# Altium footprint library 1747785-1 8 pin connector.PcbLib: 1 footprints
Each footprint in its own frame and in the unit in brackets; x right, y up, seen from the top. Pads: shape width x height; smd on the part's side, far side on the other; paste and mask are expansions set on the pad; w line width, h text height; cw(c..) or ccw(c..) is an arc to the next point about the centre after c.
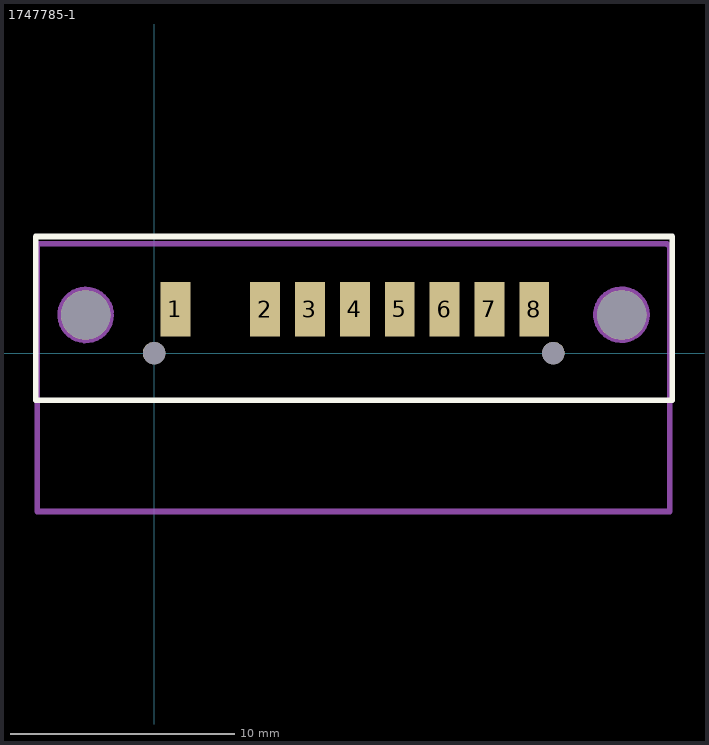
[diagram p0: the footprint, top view; thin cyan lines are the x and y axes]

## 1747785-1 [mm]
pads (12):
  rect 1.33x2.43 smd: 1(0.951,1.962) 2(4.951,1.962) 3(6.951,1.962) 4(8.952,1.962) 5(10.952,1.962) 6(12.952,1.962) 7(14.952,1.962) 8(16.952,1.962)
  round 2.2 hole 2.2 unplated: ""(-3.05,1.7) ""(20.85,1.7)
  round 1 hole 1 unplated: ""(0,0) ""(17.8,0)
Top Layer:
  lines w0.254: 20.826,1.7 20.838,1.712
Top Overlay:
  lines w0.254: -5.272,-2.1 23.1,-2.1 23.1,5.2 -5.272,5.2 -5.272,-2.1
Mechanical 1:
  circle w0.254: c20.838,1.712 r1.136
  lines w0.254: -1.923,1.841 ccw(c-3.05,1.7) -1.914,1.7 ; -5.209,-7.063 22.985,-7.063 22.985,4.748 22.858,4.875 -5.209,4.875 -5.209,-7.063
3D body "c-1747785-1-b-3d.stp": height 4.71, standoff -0.69, extent -5.1,-7.05 23,5